# EAGLE library part TI-TXB0102 (library EagleLibrary)
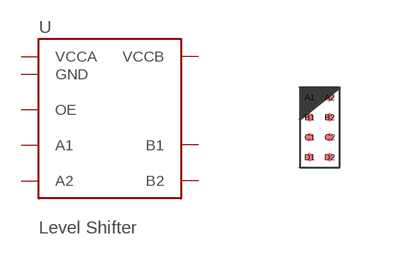
[diagram p52: symbol with the pads of TI-TXB0102YZP; footprint TI-TXB0102YZP]

Designator prefix U

## TI-TXB0102 (MFG: TI; PN: TXB0102YZP)  [TI-TXB0102YZP]
A1  B2
A2  B1
B1  GND
B2  VCCB
C1  VCCA
C2  OE
D1  A2
D2  A1

## Footprint TI-TXB0102YZP (pad centres in mm)
smd 0.2 x 0.2: A1 -0.25,0.75; A2 0.25,0.75; B1 -0.25,0.25; B2 0.25,0.25; C1 -0.25,-0.25; C2 0.25,-0.25; D1 -0.25,-0.75; D2 0.25,-0.75